# EAGLE library part HCF4538BEY (library ST_Microelctronics_By_element14_Batch_1)
DUAL MONOSTABLE MULTIVIBRATOR
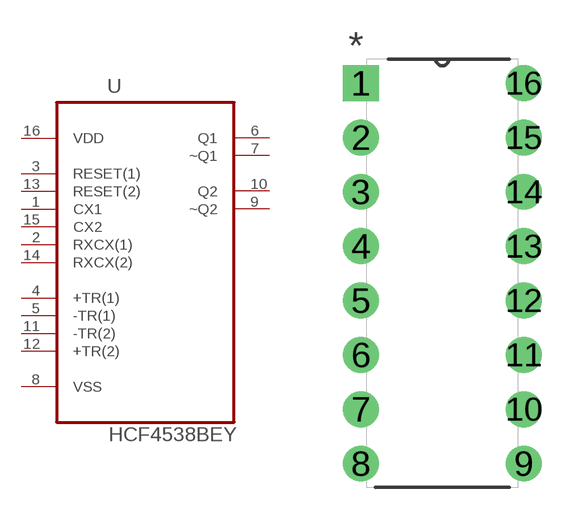
[diagram p23: symbol with the pads of DIP254P762X510-16; footprint DIP254P762X510-16]

Designator prefix U

## HCF4538BEY (MPN: HCF4538BEY; OC_FARNELL: 1675937; OC_NEWARK: 89K0596; PACKAGE: PDIP-16; SUPPLIER: STMICROELECTRONICS)  [DIP254P762X510-16]
1  CX1  pas
2  RXCX(1)  pas
3  RESET(1)  in
4  +TR(1)  in
5  -TR(1)  in
6  Q1  out
7  ~Q1  out
8  VSS  pwr
9  ~Q2  out
10  Q2  out
11  -TR(2)  in
12  +TR(2)  in
13  RESET(2)  in
14  RXCX(2)  pas
15  CX2  pas
16  VDD  pwr

## Footprint DIP254P762X510-16 (pad centres in mm)
drill 1.118 square: 1 -7.62,17.78
drill 1.118: 2 -7.62,15.24; 3 -7.62,12.7; 4 -7.62,10.16; 5 -7.62,7.62; 6 -7.62,5.08; 7 -7.62,2.54; 8 -7.62,0; 9 0,0; 10 0,2.54; 11 0,5.08; 12 0,7.62; 13 0,10.16; 14 0,12.7; 15 0,15.24; 16 0,17.78